# Altium footprint library SOIC127P600X175-8N.PcbLib: 1 footprints
Each footprint in its own frame and in the unit in brackets; x right, y up, seen from the top. Pads: shape width x height; smd on the part's side, far side on the other; paste and mask are expansions set on the pad; w line width, h text height; cw(c..) or ccw(c..) is an arc to the next point about the centre after c.
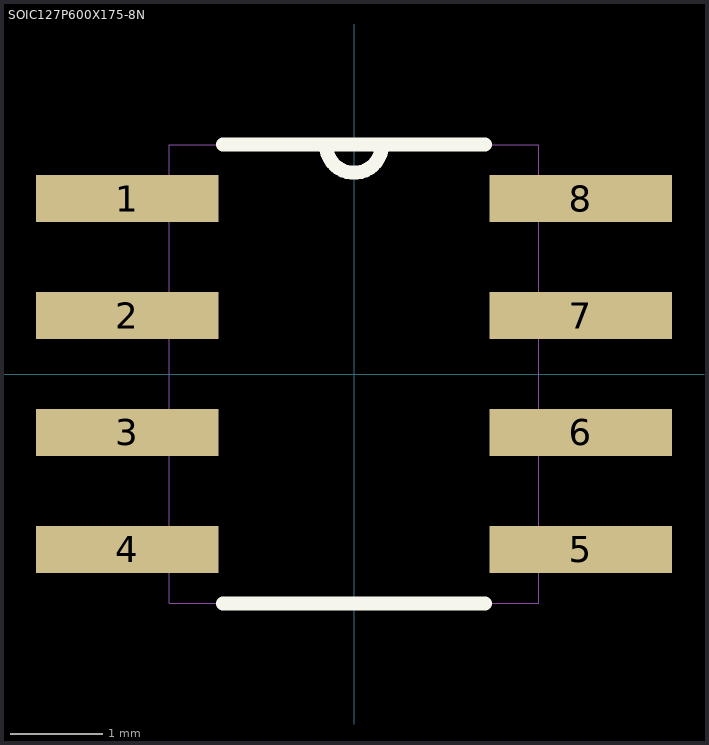
[diagram p0: the footprint, top view; thin cyan lines are the x and y axes]

## SOIC127P600X175-8N [mil]
pads (8):
  rect 78x20 smd: 1(-97,75) 2(-97,25) 3(-97,-25) 4(-97,-75) 5(97,-75) 6(97,-25) 7(97,25) 8(97,75)
Top Overlay:
  lines w6: -56,-98 56,-98 ; -56,98 -12,98 ; 56,98 12,98 ; -12,98 ccw(c0,98) 12,98 ; -12,98 12,98
Mechanical 13:
  lines w0: -12,98 ccw(c0,98) 12,98 ; -12,98 12,98 ; -12,98 -79,98 -79,-98 79,-98 79,98 12,98 ; -122,-84 -122,-66 -79,-66 -79,-84 -122,-84 ; -122,-34 -122,-16 -79,-16 -79,-34 -122,-34 ; -122,16 -122,34 -79,34 -79,16 -122,16 ; -122,66 -122,84 -79,84 -79,66 -122,66 ; 79,-84 79,-66 122,-66 122,-84 79,-84 ; 79,-34 79,-16 122,-16 122,-34 79,-34 ; 79,16 79,34 122,34 122,16 79,16 ; 79,66 79,84 122,84 122,66 79,66